# EAGLE library part MCU_ESP32-WROOM-32-N4 (library !GPLIB_ACTIVE)
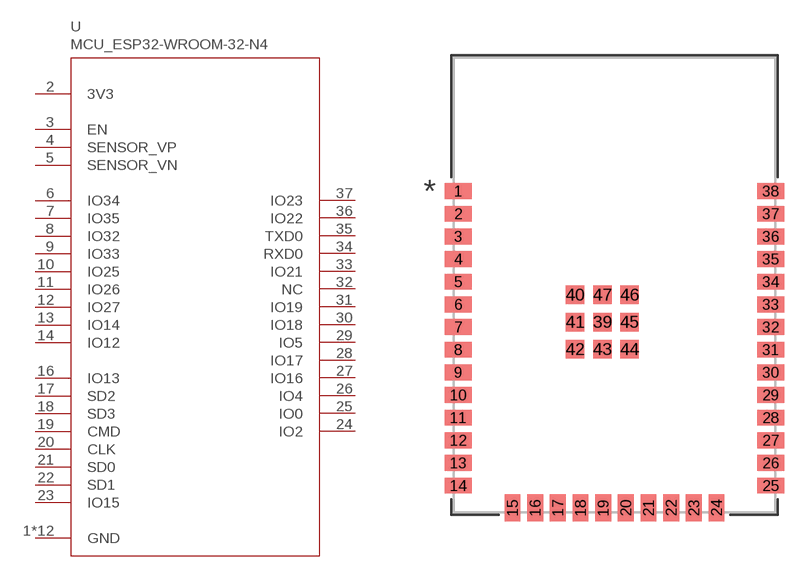
[diagram p17: symbol with the pads of ESP32-WROOM-32; footprint ESP32-WROOM-32]

Designator prefix U

## MCU_ESP32-WROOM-32-N4_MOD_ESP32-WROOM-32_EXP  [ESP32-WROOM-32]
1  GND  pas
2  3V3  pwr
3  EN  in
4  SENSOR_VP  in
5  SENSOR_VN  in
6  IO34  in
7  IO35  in
8  IO32
9  IO33
10  IO25
11  IO26
12  IO27
13  IO14
14  IO12
15  GND  pas
16  IO13
17  SD2
18  SD3
19  CMD
20  CLK
21  SD0
22  SD1
23  IO15
24  IO2
25  IO0
26  IO4
27  IO16
28  IO17
29  IO5
30  IO18
31  IO19
32  NC  nc
33  IO21
34  RXD0
35  TXD0
36  IO22
37  IO23
38  GND  pas
39  GND  pas
40  GND  pas
41  GND  pas
42  GND  pas
43  GND  pas
44  GND  pas
45  GND  pas
46  GND  pas
47  GND  pas

## Footprint ESP32-WROOM-32 (pad centres in mm)
smd 1.499 x 0.889: 1 -8.75,5.26; 2 -8.75,3.99; 3 -8.75,2.72; 4 -8.75,1.45; 5 -8.75,0.18; 6 -8.75,-1.09; 7 -8.75,-2.36; 8 -8.75,-3.63; 9 -8.75,-4.9; 10 -8.75,-6.17; 11 -8.75,-7.44; 12 -8.75,-8.71; 13 -8.75,-9.98; 14 -8.75,-11.25; 25 8.75,-11.25; 26 8.75,-9.98; 27 8.75,-8.71; 28 8.75,-7.44; 29 8.75,-6.17; 30 8.75,-4.9; 31 8.75,-3.63; 32 8.75,-2.36; 33 8.75,-1.09; 34 8.75,0.18; 35 8.75,1.45; 36 8.75,2.72; 37 8.75,3.99; 38 8.75,5.26
smd 0.889 x 1.499: 15 -5.715,-12.5; 16 -4.445,-12.5; 17 -3.175,-12.5; 18 -1.905,-12.5; 19 -0.635,-12.5; 20 0.635,-12.5; 21 1.905,-12.5; 22 3.175,-12.5; 23 4.445,-12.5; 24 5.715,-12.5
smd 1.041 x 1.041: 39 -0.68,-2.08; 40 -2.205,-0.555; 41 -2.205,-2.08; 42 -2.205,-3.605; 43 -0.68,-3.605; 44 0.845,-3.605; 45 0.845,-2.08; 46 0.845,-0.555; 47 -0.68,-0.555